# Altium schematic symbol library ACS712_MOD.SchLib: 1 symbol
Pins are listed as number, name and electrical type; pins without a type are passive.

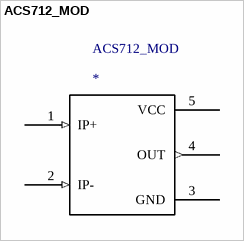
[diagram p0: symbol ACS712_MOD]

## ACS712_MOD
designator ACS712_MOD
footprint ACS712_MOD
pins: 1 IP+ (in) "Input current", 2 IP- (in), 3 GND (power), 4 OUT (out), 5 VCC (power) "5V"